# Altium schematic symbol library Game of Simon.SchLib: 7 symbols
Pins are listed as number, name and electrical type; pins without a type are passive.

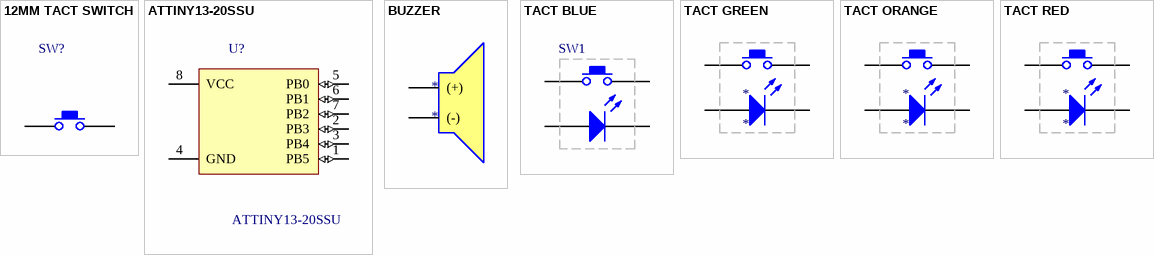
[diagram p0: symbols 12MM TACT SWITCH to TACT RED]

## 12MM TACT SWITCH
designator SW?  (value not drawn)
CustomComponentID: pjmxh7vitsno3jubi8oz
footprint 12mm TACT THROUGH HOLE
pins: 1, 2

## ATTINY13-20SSU
designator U?
ATtiny Series 20 MHz 1 KB Flash 64 B SRAM 8-Bit Microcontroller - SOIC-8; MF: Microchip; MP: ATTINY13-20SSU; Price: None; Package: SO-8 Microchip; Availability: Unavailable; SnapEDA_Link: https://www.snapeda.com/parts/ATTINY13-20SSU/Microchip/view-part/?ref=snap; Value: *
footprint *SOIC127P600X175-8N
footprint DIP-8 (DIP, 14-Pin, Row Spacing 7.62 mm, Pitch 2.54 mm)
pins: 1 PB5 (io), 2 PB3 (io), 3 PB4 (io), 4 GND, 5 PB0 (io), 6 PB1 (io), 7 PB2 (io), 8 VCC (power)

## BUZZER
designator *
footprint BUZZER
pins: 1 (+), 2 (-)

## TACT BLUE
designator SW1, comment SPST ILLUMINATED SWITCH  (value not drawn)
ILLUMINATED 12MM TACT SWITCH (BLUE); CustomComponentID: pjmxh7vitsno3jubi8oz
footprint ILLUMINATED TACT BLUE
pins: 1, 2, A, K

## TACT GREEN
designator *
footprint ILLUMINATED TACT GREEN
pins: 1, 2, A, K

## TACT ORANGE
designator *
footprint ILLUMINATED TACT ORANGE
pins: 1, 2, A, K

## TACT RED
designator *
footprint ILLUMINATED TACT RED
pins: 1, 2, A, K